# EAGLE library part ACS709 (library custom-devices)
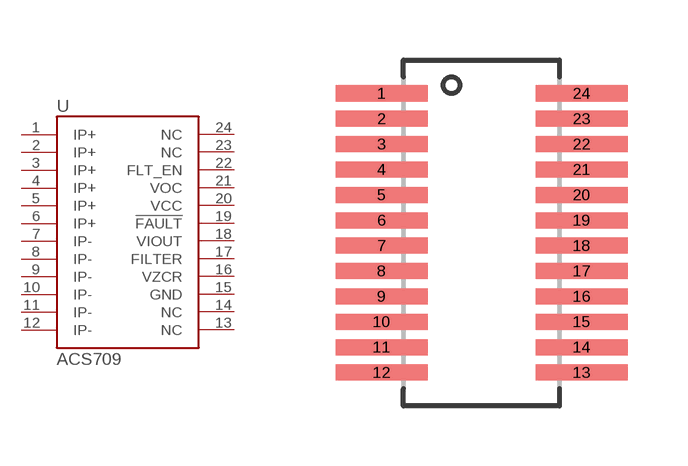
[diagram p38: symbol with the pads of QSOP24; footprint QSOP24]

Designator prefix U

## ACS709 (DIGIKEY: 620-1336-1-ND)  [QSOP24]
1  IP+
2  IP+
3  IP+
4  IP+
5  IP+
6  IP+
7  IP-
8  IP-
9  IP-
10  IP-
11  IP-
12  IP-
13  NC
14  NC
15  GND
16  VZCR
17  FILTER
18  VIOUT
19  !FAULT
20  VCC
21  VOC
22  FLT_EN
23  NC
24  NC

## Footprint QSOP24 (pad centres in mm)
smd 2.3 x 0.4: 1 -2.5,3.493; 2 -2.5,2.857; 3 -2.5,2.223; 4 -2.5,1.587; 5 -2.5,0.953; 6 -2.5,0.318; 7 -2.5,-0.318; 8 -2.5,-0.953; 9 -2.5,-1.587; 10 -2.5,-2.223; 11 -2.5,-2.857; 12 -2.5,-3.493; 13 2.5,-3.493; 14 2.5,-2.857; 15 2.5,-2.223; 16 2.5,-1.587; 17 2.5,-0.953; 18 2.5,-0.318; 19 2.5,0.318; 20 2.5,0.953; 21 2.5,1.587; 22 2.5,2.223; 23 2.5,2.857; 24 2.5,3.493